# EAGLE library part LT12 (library divers)
Transformer, 1 primary, 2 secondary coils
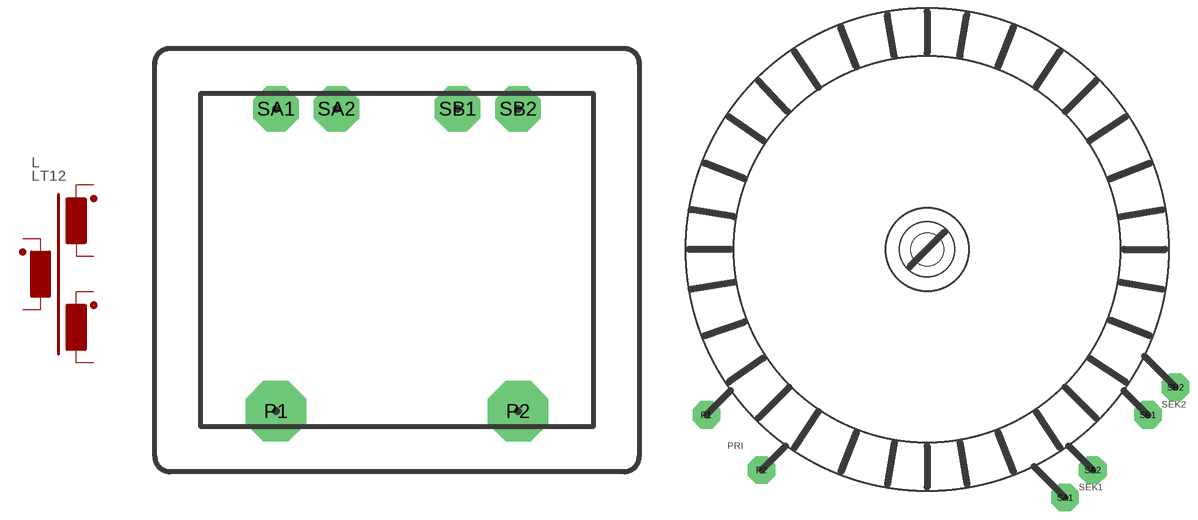
[diagram p0: symbol with the pads of LT12-2W; footprints LT12-2W, LT12-100W]

Designator prefix L

## LT12  [LT12-2W]
P1  P1  pas
P2  P2  pas
SA1  SA1  pas
SA2  SA2  pas
SB1  SB1  pas
SB2  SB2  pas

## LT12-100W  [LT12-100W]
Pads as for LT12-2W

## LT12-120W  [LT12-120W]
Pads as for LT12-2W

## LT12-2W  [LT12-2W]
Pads as for LT12-2W

## LT12-30W  [LT12-30W]
Pads as for LT12-2W

## LT12-60W  [LT12-60W]
Pads as for LT12-2W

## LT12-15W  [LT12-15W]
Pads as for LT12-2W

## LT12-10W  [LT12-10W]
Pads as for LT12-2W

## Footprint LT12-2W (pad centres in mm)
Transformer, 2 secondary coils, 2VA
drill 1.194 pad 5.08 octagon: P1 -10.16,-12.7; P2 10.16,-12.7
drill 1.194 pad 3.81 octagon: SA1 -10.16,12.7; SA2 -5.08,12.7; SB1 5.08,12.7; SB2 10.16,12.7

## Footprint LT12-100W (pad centres in mm)
Power transformer, toroidal, 100VA 1 primary, 2 secondary coils
drill 1.092 pad 5.08 octagon: P1 -40.64,-30.48; P2 -30.48,-40.64
drill 0.991 pad 5.08 octagon: SA1 25.4,-45.72; SA2 30.48,-40.64; SB1 40.64,-30.48; SB2 45.72,-25.4
hole 6.096 at 0,0

## Footprint LT12-120W (pad centres in mm)
Power transformer, toroidal, 120VA 1 primary, 2 secondary coils
drill 1.092 pad 5.08 octagon: P1 -48.26,-38.1; P2 -38.1,-48.26
drill 0.991 pad 5.08 octagon: SA1 33.02,-53.34; SA2 38.1,-48.26; SB1 48.26,-38.1; SB2 53.34,-33.02
hole 6.096 at 0,0

## Footprint LT12-30W (pad centres in mm)
Power transformer, toroidal, 30VA 1 primary, 2 secondary coils, 70mm - Block RT 30
drill 1.295 pad 5.08 octagon: P1 -33.02,-22.86; P2 -22.86,-33.02; SA1 17.78,-38.1; SA2 22.86,-33.02; SB1 33.02,-22.86; SB2 38.1,-17.78
hole 4.115 at 0,0

## Footprint LT12-60W (pad centres in mm)
Power transformer, toroidal, 60VA 1 primary, 2 secondary coils, 84mm - Block RT 60
drill 1.295 pad 5.08 octagon: P1 -38.1,-27.94; P2 -27.94,-38.1; SA1 22.86,-43.18; SA2 27.94,-38.1; SB1 38.1,-27.94; SB2 43.18,-22.86
hole 6.096 at 0,0

## Footprint LT12-15W (pad centres in mm)
Power transformer, toroidal, 15VA 1 primary, 2 secondary coils, 60mm - UR 15
drill 1.27 pad 5.08 octagon: P1 -30.48,-20.32; P2 -20.32,-30.48; SA1 15.24,-35.56; SA2 20.32,-30.48; SB1 30.48,-20.32; SB2 35.56,-15.24
hole 6.096 at 0,0

## Footprint LT12-10W (pad centres in mm)
Power transformer, 10VA 1 primary, 2 secondary coils - Block VC/VCM 10VA
drill 1.194 pad 5.08 octagon: P1 -12.7,-13.97; P2 12.7,-13.97
drill 1.194 pad 3.81 octagon: SA1 -12.7,13.97; SA2 -7.62,13.97; SB1 7.62,13.97; SB2 12.7,13.97